# Altium footprint library LCD.PcbLib: 1 footprints
Each footprint in its own frame and in the unit in brackets; x right, y up, seen from the top. Pads: shape width x height; smd on the part's side, far side on the other; paste and mask are expansions set on the pad; w line width, h text height; cw(c..) or ccw(c..) is an arc to the next point about the centre after c.
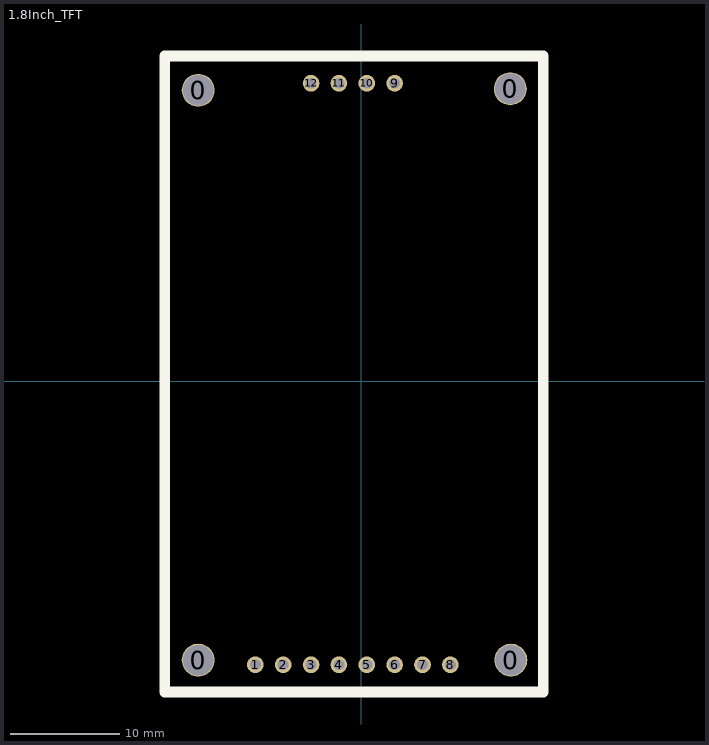
[diagram p0: the footprint, top view; thin cyan lines are the x and y axes]

## 1.8Inch_TFT [mil]
pads (16):
  round 118.11 hole 110.24: 0(-585,-1000) 0(-585,1045) 0(535,1050) 0(537.05,-1000)
  round 60 hole 39.37: 1(-380,-1016.57) 2(-280,-1016.57) 3(-180,-1016.57) 4(-80,-1016.57) 5(20,-1016.57) 6(120,-1016.57) 7(220,-1016.57) 8(320,-1016.57) 9(120,1070) 10(20,1070) 11(-80,1070) 12(-180,1070)
Top Overlay:
  lines w39.37: -705,-1115 653.27,-1115 653.27,1168.46 -705,1168.46 -705,-1115